# Altium schematic symbol library big-auv-power.SchLib: 18 symbols
Pins are listed as number, name and electrical type; pins without a type are passive.

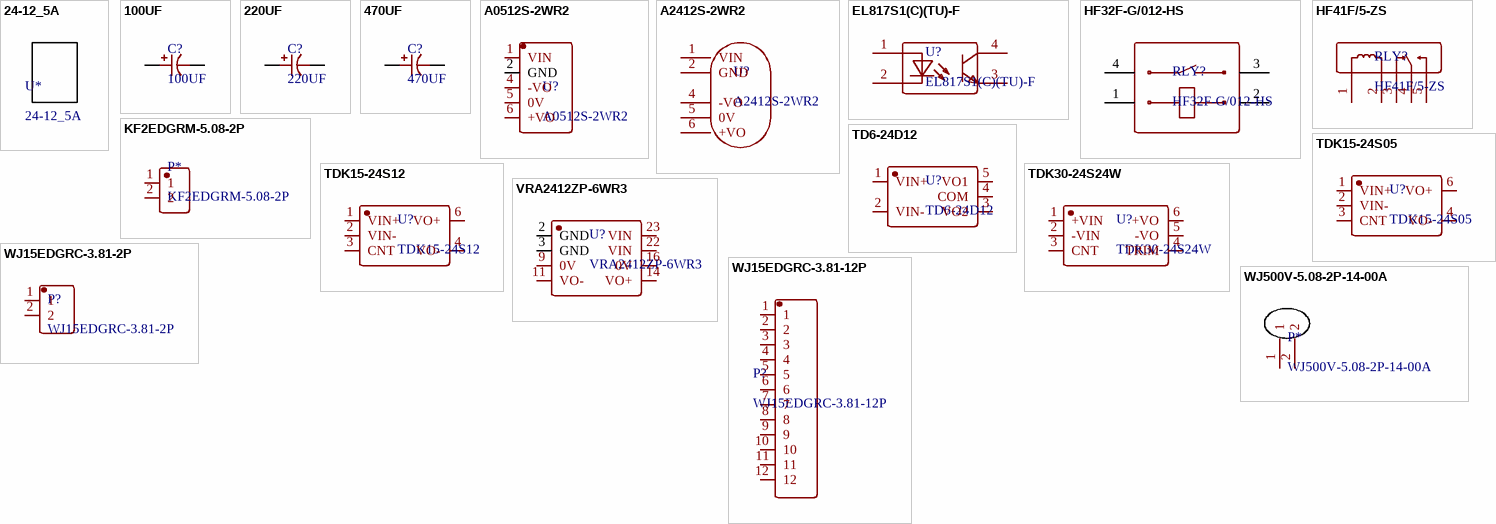
[diagram p0: symbols 24-12_5A to WJ500V-5.08-2P-14-00A]

## 24-12_5A
designator U*
footprint 24-12_5A

## 100UF
designator C?
footprint 100UF (SMD,6.3x7.7mm)
pins: 1, 2

## 220UF
designator C?
footprint 220UF (SMD,6.3x7.7mm)
pins: 1, 2

## 470UF
designator C?
footprint 470UF (SMD,6.3x7.7mm)
pins: 1, 2

## A0512S-2WR2
designator U?
footprint A0512S-2WR2
pins: 1 VIN, 2 GND, 4 -VO, 5 0V, 6 +VO

## A2412S-2WR2
designator U?
footprint A2412S-2WR2
pins: 1 VIN, 2 GND, 4 -VO, 5 0V, 6 +VO

## EL817S1(C)(TU)-F
designator U?
footprint EL817S1(C)(TU)-F
pins: 1 AN, 2 CAT, 3 EM, 4 COL

## HF32F-G/012-HS
designator RLY?
footprint hf32f-g/012-hs
pins: 1, 2, 3, 4

## HF41F/5-ZS
designator RLY?
footprint HF41F/5-ZS
pins: 1 COIL, 2 COIL, 3 NC, 4 COM, 5 NO

## KF2EDGRM-5.08-2P
designator P*
footprint KF2EDGRM-5.08-2P
pins: 1, 2

## TD6-24D12
designator U?
footprint TD6-24D12
pins: 1 VIN+, 2 VIN-, 3 VO2, 4 COM, 5 VO1

## TDK15-24S05
designator U?
footprint TDK15-24S05
pins: 1 VIN+, 2 VIN-, 3 CNT, 4 VO-, 6 VO+

## TDK15-24S12
designator U?
footprint TDK15-24S12
pins: 1 VIN+, 2 VIN-, 3 CNT, 4 VO-, 6 VO+

## TDK30-24S24W
designator U?
footprint TDK30-24S24W
pins: 1 +VIN, 2 -VIN, 3 CNT, 4 TRIM, 5 -VO, 6 +VO

## VRA2412ZP-6WR3
designator U?
footprint VRA2412ZP-6WR3
pins: 2 GND, 3 GND, 9 0V, 11 VO-, 14 VO+, 16 0V, 22 VIN, 23 VIN

## WJ15EDGRC-3.81-2P
designator P?
footprint WJ15EDGRC-3.81-2P
pins: 1, 2

## WJ15EDGRC-3.81-12P
designator P?
footprint WJ15EDGRC-3.81-12P
pins: 1, 2, 3, 4, 5, 6, 7, 8, 9, 10, 11, 12

## WJ500V-5.08-2P-14-00A
designator P*
footprint WJ500V-5.08-2P-14-00A
pins: 1, 2